# Altium integrated library Texas Instruments Interface RS-232.IntLib: 1272 symbols (part 33 of 37)
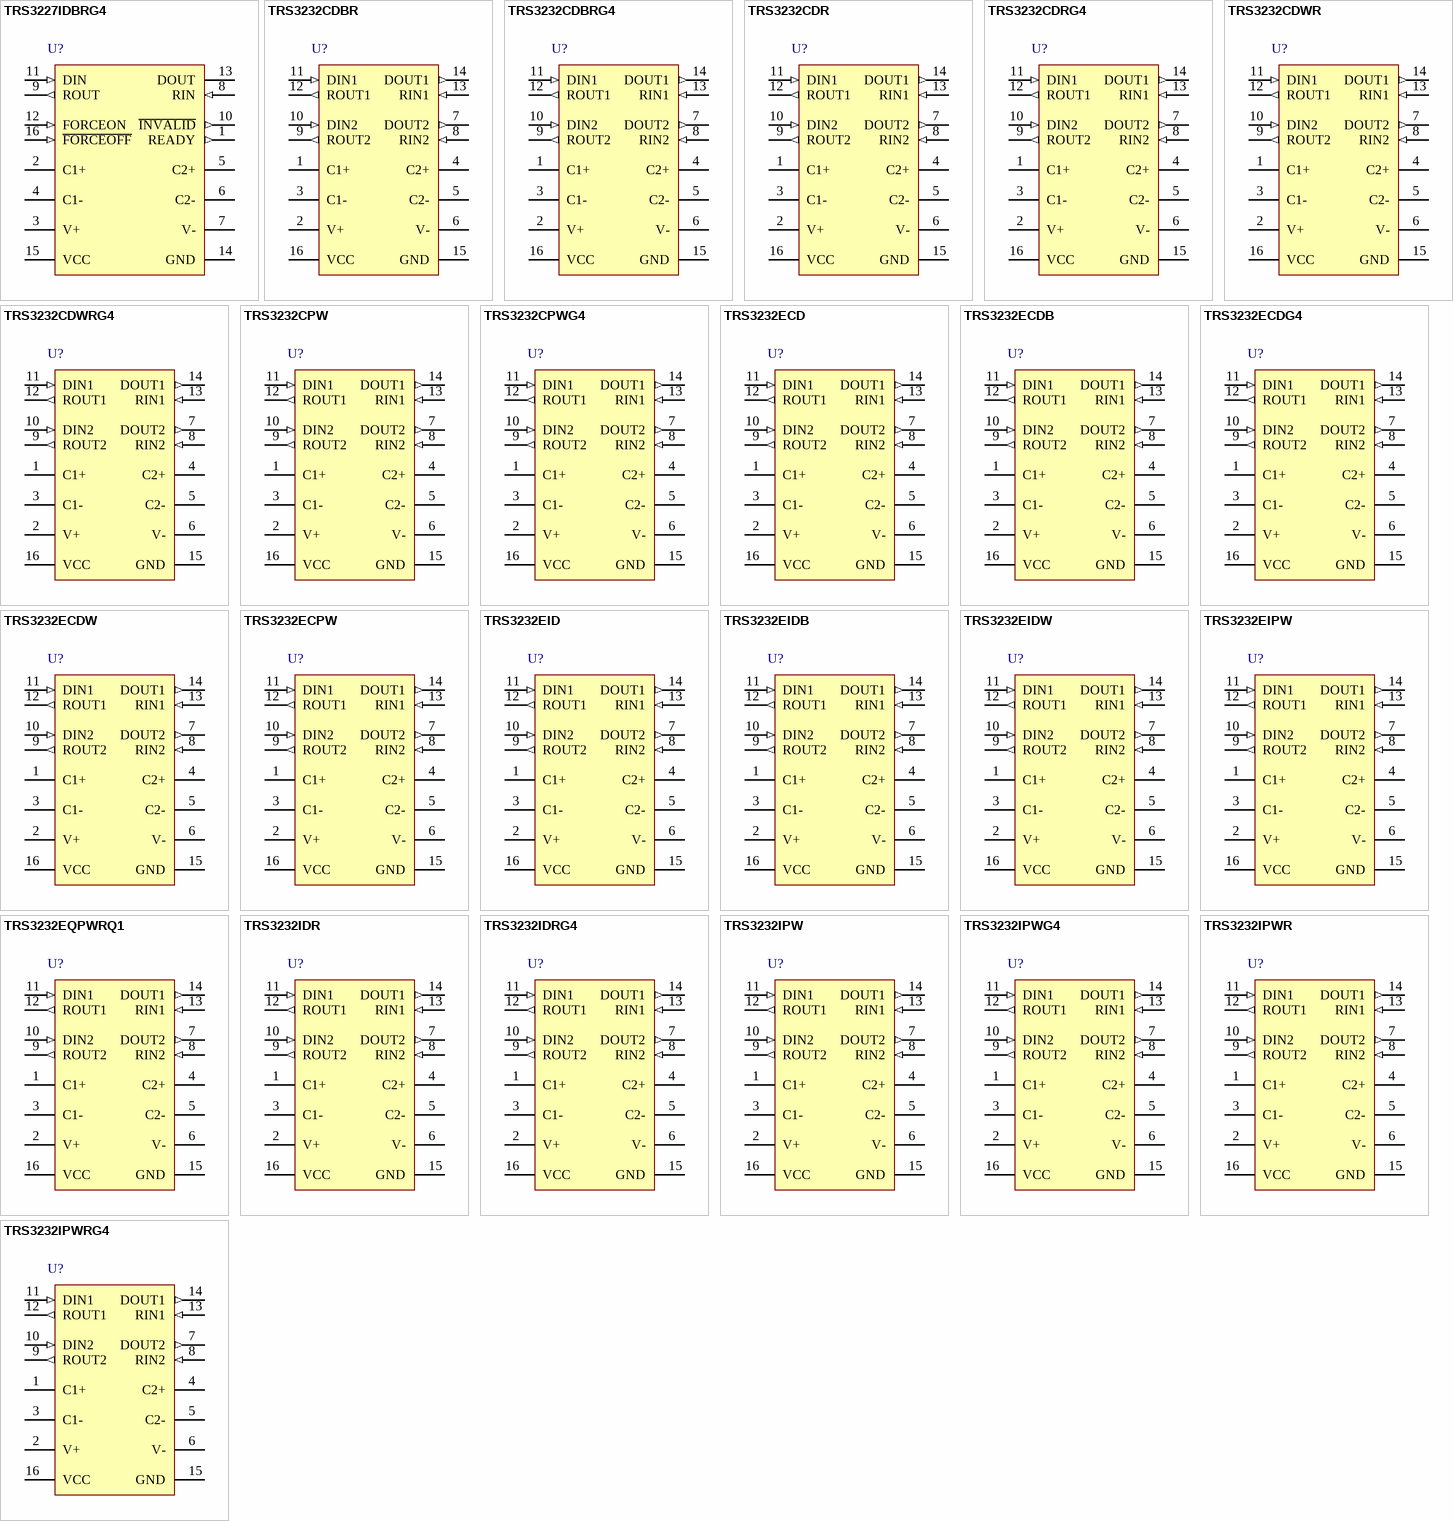
[diagram p86: symbols TRS3227IDBRG4 to TRS3232IPWRG4]

## TRS3232IDR
designator U?
3-V to 5.5-V Multichannel RS-232 Line Driver / Receiver with ±15-kV ESD Protection, -40 to 85 degC, 16-Pin SOIC (D),  Green (RoHS & no Sb/Br); Drivers Per Package: 2; Supply Voltage(s)(V): 3.3 or 5.0; ESD HBM(kV): +/-15; ICC(Max)(mA): 1; Single Supply: TRUE; DatasheetVersion: SLLS812; PackageVersion: revM, Jun-2011; PackageReference: D16; PackageDescription: 16-Pin Plastic Small Outline Integrated Circuit, 9.9 x 3.9 mm, Pitch 1.27 mm Pitch; SubFamily: RS-232; Receivers Per Package: 2; RS-232: TRUE; ComponentLink1Description: Manufacturer URL; ComponentLink1URL: www.ti.com; ComponentLink2Description: Datasheet; ComponentLink2URL: http://www.ti.com/general/docs/lit/getliterature.tsp?genericPartNumber=TRS3232&fileType=pdf; ComponentLink3Description: Package Specification; ComponentLink3URL: http://www.ti.com/litv/pdf/mpds178g
footprint TI-D16_N (SOIC, 16-Leads, Body 9.9x3.9mm, Pitch 1.27mm, IPC Medium Density)
footprint TI-D16_L (SOIC, 16-Leads, Body 9.9x3.9mm, Pitch 1.27mm, IPC High Density)
footprint TI-D16_M (SOIC, 16-Leads, Body 9.9x3.9mm, Pitch 1.27mm, IPC Low Density)
pins: 1 C1+, 2 V+ (power), 3 C1-, 4 C2+, 5 C2-, 6 V- (power), 7 DOUT2 (out), 8 RIN2 (in), 9 ROUT2 (out), 10 DIN2 (in), 11 DIN1 (in), 12 ROUT1 (out), 13 RIN1 (in), 14 DOUT1 (out), 15 GND (power), 16 VCC (power)

## TRS3232IDRG4
designator U?
3-V to 5.5-V Multichannel RS-232 Line Driver / Receiver with ±15-kV ESD Protection, -40 to 85 degC, 16-Pin SOIC (D),  Green (RoHS & no Sb/Br); Drivers Per Package: 2; Supply Voltage(s)(V): 3.3 or 5.0; ESD HBM(kV): +/-15; ICC(Max)(mA): 1; Single Supply: TRUE; DatasheetVersion: SLLS812; PackageVersion: revM, Jun-2011; PackageReference: D16; PackageDescription: 16-Pin Plastic Small Outline Integrated Circuit, 9.9 x 3.9 mm, Pitch 1.27 mm Pitch; SubFamily: RS-232; Receivers Per Package: 2; RS-232: TRUE; ComponentLink1Description: Manufacturer URL; ComponentLink1URL: www.ti.com; ComponentLink2Description: Datasheet; ComponentLink2URL: http://www.ti.com/general/docs/lit/getliterature.tsp?genericPartNumber=TRS3232&fileType=pdf; ComponentLink3Description: Package Specification; ComponentLink3URL: http://www.ti.com/litv/pdf/mpds178g
footprint TI-D16_N (SOIC, 16-Leads, Body 9.9x3.9mm, Pitch 1.27mm, IPC Medium Density)
footprint TI-D16_L (SOIC, 16-Leads, Body 9.9x3.9mm, Pitch 1.27mm, IPC High Density)
footprint TI-D16_M (SOIC, 16-Leads, Body 9.9x3.9mm, Pitch 1.27mm, IPC Low Density)
pins: 1 C1+, 2 V+ (power), 3 C1-, 4 C2+, 5 C2-, 6 V- (power), 7 DOUT2 (out), 8 RIN2 (in), 9 ROUT2 (out), 10 DIN2 (in), 11 DIN1 (in), 12 ROUT1 (out), 13 RIN1 (in), 14 DOUT1 (out), 15 GND (power), 16 VCC (power)

## TRS3232IPW
designator U?
3-V to 5.5-V Multichannel RS-232 Line Driver / Receiver with ±15-kV ESD Protection, -40 to 85 degC, 16-Pin TSSOP (PW),  Green (RoHS & no Sb/Br); Drivers Per Package: 2; Supply Voltage(s)(V): 3.3 or 5.0; ESD HBM(kV): +/-15; ICC(Max)(mA): 1; Single Supply: TRUE; DatasheetVersion: SLLS812; PackageVersion: revG, Feb-2011; PackageReference: PW16; PackageDescription: 16-Pin Plastic Thin Small Outline Package 5 x 4.4 mm Body ,0.65 mm Pitch; SubFamily: RS-232; Receivers Per Package: 2; RS-232: TRUE; ComponentLink1Description: Manufacturer URL; ComponentLink1URL: www.ti.com; ComponentLink2Description: Datasheet; ComponentLink2URL: http://www.ti.com/general/docs/lit/getliterature.tsp?genericPartNumber=TRS3232&fileType=pdf; ComponentLink3Description: Package Specification; ComponentLink3URL: http://www.ti.com/litv/pdf/mpds361
footprint TI-PW16_N (TSOP, 16-Leads, Body 5x4.4mm, Pitch 0.65mm, IPC Medium Density)
footprint TI-PW16_L (TSOP, 16-Leads, Body 5x4.4mm, Pitch 0.65mm, IPC High Density)
footprint TI-PW16_M (TSOP, 16-Leads, Body 5x4.4mm, Pitch 0.65mm, IPC Low Density)
pins: 1 C1+, 2 V+ (power), 3 C1-, 4 C2+, 5 C2-, 6 V- (power), 7 DOUT2 (out), 8 RIN2 (in), 9 ROUT2 (out), 10 DIN2 (in), 11 DIN1 (in), 12 ROUT1 (out), 13 RIN1 (in), 14 DOUT1 (out), 15 GND (power), 16 VCC (power)

## TRS3232IPWG4
designator U?
3-V to 5.5-V Multichannel RS-232 Line Driver / Receiver with ±15-kV ESD Protection, -40 to 85 degC, 16-Pin TSSOP (PW),  Green (RoHS & no Sb/Br); Drivers Per Package: 2; Supply Voltage(s)(V): 3.3 or 5.0; ESD HBM(kV): +/-15; ICC(Max)(mA): 1; Single Supply: TRUE; DatasheetVersion: SLLS812; PackageVersion: revG, Feb-2011; PackageReference: PW16; PackageDescription: 16-Pin Plastic Thin Small Outline Package 5 x 4.4 mm Body ,0.65 mm Pitch; SubFamily: RS-232; Receivers Per Package: 2; RS-232: TRUE; ComponentLink1Description: Manufacturer URL; ComponentLink1URL: www.ti.com; ComponentLink2Description: Datasheet; ComponentLink2URL: http://www.ti.com/general/docs/lit/getliterature.tsp?genericPartNumber=TRS3232&fileType=pdf; ComponentLink3Description: Package Specification; ComponentLink3URL: http://www.ti.com/litv/pdf/mpds361
footprint TI-PW16_N (TSOP, 16-Leads, Body 5x4.4mm, Pitch 0.65mm, IPC Medium Density)
footprint TI-PW16_L (TSOP, 16-Leads, Body 5x4.4mm, Pitch 0.65mm, IPC High Density)
footprint TI-PW16_M (TSOP, 16-Leads, Body 5x4.4mm, Pitch 0.65mm, IPC Low Density)
pins: 1 C1+, 2 V+ (power), 3 C1-, 4 C2+, 5 C2-, 6 V- (power), 7 DOUT2 (out), 8 RIN2 (in), 9 ROUT2 (out), 10 DIN2 (in), 11 DIN1 (in), 12 ROUT1 (out), 13 RIN1 (in), 14 DOUT1 (out), 15 GND (power), 16 VCC (power)

## TRS3232IPWR
designator U?
3-V to 5.5-V Multichannel RS-232 Line Driver / Receiver with ±15-kV ESD Protection, -40 to 85 degC, 16-Pin TSSOP (PW),  Green (RoHS & no Sb/Br); Drivers Per Package: 2; Supply Voltage(s)(V): 3.3 or 5.0; ESD HBM(kV): +/-15; ICC(Max)(mA): 1; Single Supply: TRUE; DatasheetVersion: SLLS812; PackageVersion: revG, Feb-2011; PackageReference: PW16; PackageDescription: 16-Pin Plastic Thin Small Outline Package 5 x 4.4 mm Body ,0.65 mm Pitch; SubFamily: RS-232; Receivers Per Package: 2; RS-232: TRUE; ComponentLink1Description: Manufacturer URL; ComponentLink1URL: www.ti.com; ComponentLink2Description: Datasheet; ComponentLink2URL: http://www.ti.com/general/docs/lit/getliterature.tsp?genericPartNumber=TRS3232&fileType=pdf; ComponentLink3Description: Package Specification; ComponentLink3URL: http://www.ti.com/litv/pdf/mpds361
footprint TI-PW16_N (TSOP, 16-Leads, Body 5x4.4mm, Pitch 0.65mm, IPC Medium Density)
footprint TI-PW16_L (TSOP, 16-Leads, Body 5x4.4mm, Pitch 0.65mm, IPC High Density)
footprint TI-PW16_M (TSOP, 16-Leads, Body 5x4.4mm, Pitch 0.65mm, IPC Low Density)
pins: 1 C1+, 2 V+ (power), 3 C1-, 4 C2+, 5 C2-, 6 V- (power), 7 DOUT2 (out), 8 RIN2 (in), 9 ROUT2 (out), 10 DIN2 (in), 11 DIN1 (in), 12 ROUT1 (out), 13 RIN1 (in), 14 DOUT1 (out), 15 GND (power), 16 VCC (power)

## TRS3232IPWRG4
designator U?
3-V to 5.5-V Multichannel RS-232 Line Driver / Receiver with ±15-kV ESD Protection, -40 to 85 degC, 16-Pin TSSOP (PW),  Green (RoHS & no Sb/Br); Drivers Per Package: 2; Supply Voltage(s)(V): 3.3 or 5.0; ESD HBM(kV): +/-15; ICC(Max)(mA): 1; Single Supply: TRUE; DatasheetVersion: SLLS812; PackageVersion: revG, Feb-2011; PackageReference: PW16; PackageDescription: 16-Pin Plastic Thin Small Outline Package 5 x 4.4 mm Body ,0.65 mm Pitch; SubFamily: RS-232; Receivers Per Package: 2; RS-232: TRUE; ComponentLink1Description: Manufacturer URL; ComponentLink1URL: www.ti.com; ComponentLink2Description: Datasheet; ComponentLink2URL: http://www.ti.com/general/docs/lit/getliterature.tsp?genericPartNumber=TRS3232&fileType=pdf; ComponentLink3Description: Package Specification; ComponentLink3URL: http://www.ti.com/litv/pdf/mpds361
footprint TI-PW16_N (TSOP, 16-Leads, Body 5x4.4mm, Pitch 0.65mm, IPC Medium Density)
footprint TI-PW16_L (TSOP, 16-Leads, Body 5x4.4mm, Pitch 0.65mm, IPC High Density)
footprint TI-PW16_M (TSOP, 16-Leads, Body 5x4.4mm, Pitch 0.65mm, IPC Low Density)
pins: 1 C1+, 2 V+ (power), 3 C1-, 4 C2+, 5 C2-, 6 V- (power), 7 DOUT2 (out), 8 RIN2 (in), 9 ROUT2 (out), 10 DIN2 (in), 11 DIN1 (in), 12 ROUT1 (out), 13 RIN1 (in), 14 DOUT1 (out), 15 GND (power), 16 VCC (power)

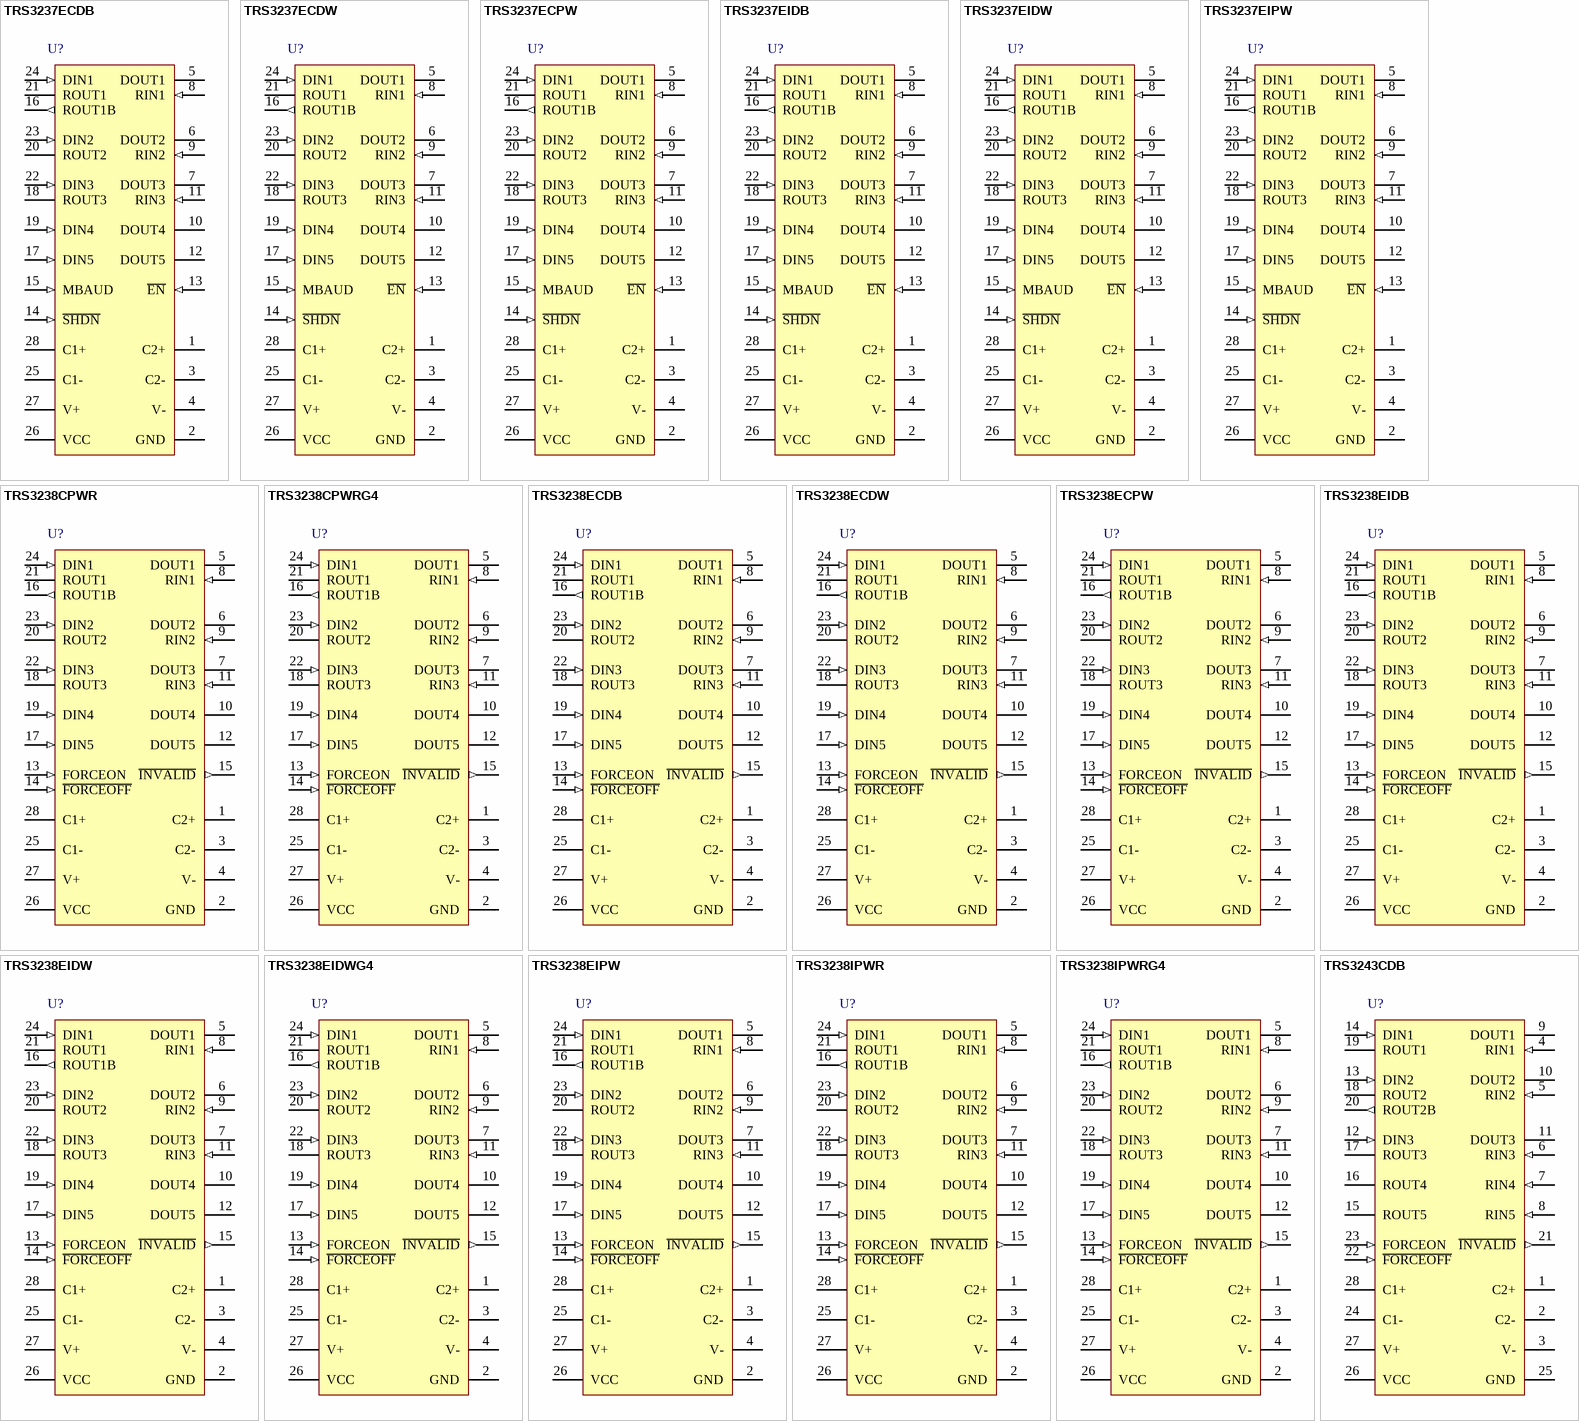
[diagram p48: symbols TRS3237ECDB to TRS3243CDB]

## TRS3237ECDB
designator U?
3-V to 5.5-V Multichannel RS-232 1-Mbit/s Line Driver / Receiver, 0 to 70 degC, 28-Pin SSOP (DB), Green (RoHS & no Sb/Br); Drivers Per Package: 5; Receivers Per Package: 3; Supply Voltage(s)(V): 3.3 or 5.0; ESD HBM(kV): +/-15; ICC(Max)(mA): 2; Single Supply: TRUE; DatasheetVersion: SLLS796A; PackageVersion: revE, Dec-2001; PackageReference: DB28; PackageDescription: 28-Pin Plastic Small Outline Package, 10.2 x 5.3 mm Body, 0.65 mm Pitch; SubFamily: RS-232; RS-232: TRUE; IEC-61000-4-2 SUPPORT: TRUE; ComponentLink1Description: Manufacturer URL; ComponentLink1URL: www.ti.com; ComponentLink2Description: Datasheet; ComponentLink2URL: http://www.ti.com/general/docs/lit/getliterature.tsp?genericPartNumber=TRS3237E&fileType=pdf; ComponentLink3Description: Package Specification; ComponentLink3URL: http://www.ti.com/litv/pdf/msso002e
footprint TI-DB28_N (SOP, 28-Leads, Body 10.2x5.3mm, Pitch 0.65mm, IPC Medium Density)
footprint TI-DB28_L (SOP, 28-Leads, Body 10.2x5.3mm, Pitch 0.65mm, IPC High Density)
footprint TI-DB28_M (SOP, 28-Leads, Body 10.2x5.3mm, Pitch 0.65mm, IPC Low Density)
pins: 1 C2+, 2 GND (power), 3 C2-, 4 V- (power), 5 DOUT1 (hiz), 6 DOUT2 (hiz), 7 DOUT3 (hiz), 8 RIN1 (in), 9 RIN2 (in), 10 DOUT4 (hiz), 11 RIN3 (in), 12 DOUT5 (hiz), 13 ~{EN} (in), 14 ~{SHDN} (in), 15 MBAUD (in), 16 ROUT1B (out), 17 DIN5 (in), 18 ROUT3 (hiz), 19 DIN4 (in), 20 ROUT2 (hiz), 21 ROUT1 (hiz), 22 DIN3 (in), 23 DIN2 (in), 24 DIN1 (in), 25 C1-, 26 VCC (power), 27 V+ (power), 28 C1+

## TRS3237ECDW
designator U?
3-V to 5.5-V Multichannel RS-232 1-Mbit/s Line Driver / Receiver, 0 to 70 degC, 28-Pin SOIC (DW), Green (RoHS & no Sb/Br); Drivers Per Package: 5; Receivers Per Package: 3; Supply Voltage(s)(V): 3.3 or 5.0; ESD HBM(kV): +/-15; ICC(Max)(mA): 2; Single Supply: TRUE; DatasheetVersion: SLLS796A; PackageVersion: revG, Jan-2011; PackageReference: DW28; PackageDescription: 28-Pin Plastic Small Outline Integrated Circuit, 17.9 x 7.5 mm, Pitch 1.27 mm Pitch; SubFamily: RS-232; RS-232: TRUE; IEC-61000-4-2 SUPPORT: TRUE; ComponentLink1Description: Manufacturer URL; ComponentLink1URL: www.ti.com; ComponentLink2Description: Datasheet; ComponentLink2URL: http://www.ti.com/general/docs/lit/getliterature.tsp?genericPartNumber=TRS3237E&fileType=pdf; ComponentLink3Description: Package Specification; ComponentLink3URL: http://www.ti.com/litv/pdf/mpds175a
footprint TI-DW28_N (SOIC, 28-Leads, Body 17.9x7.5mm, Pitch 1.27mm, IPC Medium Density)
footprint TI-DW28_L (SOIC, 28-Leads, Body 17.9x7.5mm, Pitch 1.27mm, IPC High Density)
footprint TI-DW28_M (SOIC, 28-Leads, Body 17.9x7.5mm, Pitch 1.27mm, IPC Low Density)
pins: 1 C2+, 2 GND (power), 3 C2-, 4 V- (power), 5 DOUT1 (hiz), 6 DOUT2 (hiz), 7 DOUT3 (hiz), 8 RIN1 (in), 9 RIN2 (in), 10 DOUT4 (hiz), 11 RIN3 (in), 12 DOUT5 (hiz), 13 ~{EN} (in), 14 ~{SHDN} (in), 15 MBAUD (in), 16 ROUT1B (out), 17 DIN5 (in), 18 ROUT3 (hiz), 19 DIN4 (in), 20 ROUT2 (hiz), 21 ROUT1 (hiz), 22 DIN3 (in), 23 DIN2 (in), 24 DIN1 (in), 25 C1-, 26 VCC (power), 27 V+ (power), 28 C1+

## TRS3237ECPW
designator U?
3-V to 5.5-V Multichannel RS-232 1-Mbit/s Line Driver / Receiver, 0 to 70 degC, 28-Pin TSSOP (PW), Green (RoHS & no Sb/Br); Drivers Per Package: 5; Receivers Per Package: 3; Supply Voltage(s)(V): 3.3 or 5.0; ESD HBM(kV): +/-15; ICC(Max)(mA): 2; Single Supply: TRUE; DatasheetVersion: SLLS796A; PackageVersion: revG, Feb-2011; PackageReference: PW28; PackageDescription: 28-Pin Plastic Thin Small Outline Package 9.7 x 4.4 mm Body ,0.65 mm Pitch; SubFamily: RS-232; RS-232: TRUE; IEC-61000-4-2 SUPPORT: TRUE; ComponentLink1Description: Manufacturer URL; ComponentLink1URL: www.ti.com; ComponentLink2Description: Datasheet; ComponentLink2URL: http://www.ti.com/general/docs/lit/getliterature.tsp?genericPartNumber=TRS3237E&fileType=pdf; ComponentLink3Description: Package Specification; ComponentLink3URL: http://www.ti.com/litv/pdf/mpds364
footprint TI-PW28_N (TSOP, 28-Leads, Body 9.7x4.4mm, Pitch 0.65mm, IPC Medium Density)
footprint TI-PW28_L (TSOP, 28-Leads, Body 9.7x4.4mm, Pitch 0.65mm, IPC High Density)
footprint TI-PW28_M (TSOP, 28-Leads, Body 9.7x4.4mm, Pitch 0.65mm, IPC Low Density)
pins: 1 C2+, 2 GND (power), 3 C2-, 4 V- (power), 5 DOUT1 (hiz), 6 DOUT2 (hiz), 7 DOUT3 (hiz), 8 RIN1 (in), 9 RIN2 (in), 10 DOUT4 (hiz), 11 RIN3 (in), 12 DOUT5 (hiz), 13 ~{EN} (in), 14 ~{SHDN} (in), 15 MBAUD (in), 16 ROUT1B (out), 17 DIN5 (in), 18 ROUT3 (hiz), 19 DIN4 (in), 20 ROUT2 (hiz), 21 ROUT1 (hiz), 22 DIN3 (in), 23 DIN2 (in), 24 DIN1 (in), 25 C1-, 26 VCC (power), 27 V+ (power), 28 C1+

## TRS3237EIDB
designator U?
3-V to 5.5-V Multichannel RS-232 1-Mbit/s Line Driver / Receiver, -40 to 85 degC, 28-Pin SSOP (DB), Green (RoHS & no Sb/Br); Drivers Per Package: 5; Receivers Per Package: 3; Supply Voltage(s)(V): 3.3 or 5.0; ESD HBM(kV): +/-15; ICC(Max)(mA): 2; Single Supply: TRUE; DatasheetVersion: SLLS796A; PackageVersion: revE, Dec-2001; PackageReference: DB28; PackageDescription: 28-Pin Plastic Small Outline Package, 10.2 x 5.3 mm Body, 0.65 mm Pitch; SubFamily: RS-232; RS-232: TRUE; IEC-61000-4-2 SUPPORT: TRUE; ComponentLink1Description: Manufacturer URL; ComponentLink1URL: www.ti.com; ComponentLink2Description: Datasheet; ComponentLink2URL: http://www.ti.com/general/docs/lit/getliterature.tsp?genericPartNumber=TRS3237E&fileType=pdf; ComponentLink3Description: Package Specification; ComponentLink3URL: http://www.ti.com/litv/pdf/msso002e
footprint TI-DB28_N (SOP, 28-Leads, Body 10.2x5.3mm, Pitch 0.65mm, IPC Medium Density)
footprint TI-DB28_L (SOP, 28-Leads, Body 10.2x5.3mm, Pitch 0.65mm, IPC High Density)
footprint TI-DB28_M (SOP, 28-Leads, Body 10.2x5.3mm, Pitch 0.65mm, IPC Low Density)
pins: 1 C2+, 2 GND (power), 3 C2-, 4 V- (power), 5 DOUT1 (hiz), 6 DOUT2 (hiz), 7 DOUT3 (hiz), 8 RIN1 (in), 9 RIN2 (in), 10 DOUT4 (hiz), 11 RIN3 (in), 12 DOUT5 (hiz), 13 ~{EN} (in), 14 ~{SHDN} (in), 15 MBAUD (in), 16 ROUT1B (out), 17 DIN5 (in), 18 ROUT3 (hiz), 19 DIN4 (in), 20 ROUT2 (hiz), 21 ROUT1 (hiz), 22 DIN3 (in), 23 DIN2 (in), 24 DIN1 (in), 25 C1-, 26 VCC (power), 27 V+ (power), 28 C1+

## TRS3237EIDW
designator U?
3-V to 5.5-V Multichannel RS-232 1-Mbit/s Line Driver / Receiver, -40 to 85 degC, 28-Pin SOIC (DW), Green (RoHS & no Sb/Br); Drivers Per Package: 5; Receivers Per Package: 3; Supply Voltage(s)(V): 3.3 or 5.0; ESD HBM(kV): +/-15; ICC(Max)(mA): 2; Single Supply: TRUE; DatasheetVersion: SLLS796A; PackageVersion: revG, Jan-2011; PackageReference: DW28; PackageDescription: 28-Pin Plastic Small Outline Integrated Circuit, 17.9 x 7.5 mm, Pitch 1.27 mm Pitch; SubFamily: RS-232; RS-232: TRUE; IEC-61000-4-2 SUPPORT: TRUE; ComponentLink1Description: Manufacturer URL; ComponentLink1URL: www.ti.com; ComponentLink2Description: Datasheet; ComponentLink2URL: http://www.ti.com/general/docs/lit/getliterature.tsp?genericPartNumber=TRS3237E&fileType=pdf; ComponentLink3Description: Package Specification; ComponentLink3URL: http://www.ti.com/litv/pdf/mpds175a
footprint TI-DW28_N (SOIC, 28-Leads, Body 17.9x7.5mm, Pitch 1.27mm, IPC Medium Density)
footprint TI-DW28_L (SOIC, 28-Leads, Body 17.9x7.5mm, Pitch 1.27mm, IPC High Density)
footprint TI-DW28_M (SOIC, 28-Leads, Body 17.9x7.5mm, Pitch 1.27mm, IPC Low Density)
pins: 1 C2+, 2 GND (power), 3 C2-, 4 V- (power), 5 DOUT1 (hiz), 6 DOUT2 (hiz), 7 DOUT3 (hiz), 8 RIN1 (in), 9 RIN2 (in), 10 DOUT4 (hiz), 11 RIN3 (in), 12 DOUT5 (hiz), 13 ~{EN} (in), 14 ~{SHDN} (in), 15 MBAUD (in), 16 ROUT1B (out), 17 DIN5 (in), 18 ROUT3 (hiz), 19 DIN4 (in), 20 ROUT2 (hiz), 21 ROUT1 (hiz), 22 DIN3 (in), 23 DIN2 (in), 24 DIN1 (in), 25 C1-, 26 VCC (power), 27 V+ (power), 28 C1+

## TRS3237EIPW
designator U?
3-V to 5.5-V Multichannel RS-232 1-Mbit/s Line Driver / Receiver, -40 to 85 degC, 28-Pin TSSOP (PW), Green (RoHS & no Sb/Br); Drivers Per Package: 5; Receivers Per Package: 3; Supply Voltage(s)(V): 3.3 or 5.0; ESD HBM(kV): +/-15; ICC(Max)(mA): 2; Single Supply: TRUE; DatasheetVersion: SLLS796A; PackageVersion: revG, Feb-2011; PackageReference: PW28; PackageDescription: 28-Pin Plastic Thin Small Outline Package 9.7 x 4.4 mm Body ,0.65 mm Pitch; SubFamily: RS-232; RS-232: TRUE; IEC-61000-4-2 SUPPORT: TRUE; ComponentLink1Description: Manufacturer URL; ComponentLink1URL: www.ti.com; ComponentLink2Description: Datasheet; ComponentLink2URL: http://www.ti.com/general/docs/lit/getliterature.tsp?genericPartNumber=TRS3237E&fileType=pdf; ComponentLink3Description: Package Specification; ComponentLink3URL: http://www.ti.com/litv/pdf/mpds364
footprint TI-PW28_N (TSOP, 28-Leads, Body 9.7x4.4mm, Pitch 0.65mm, IPC Medium Density)
footprint TI-PW28_L (TSOP, 28-Leads, Body 9.7x4.4mm, Pitch 0.65mm, IPC High Density)
footprint TI-PW28_M (TSOP, 28-Leads, Body 9.7x4.4mm, Pitch 0.65mm, IPC Low Density)
pins: 1 C2+, 2 GND (power), 3 C2-, 4 V- (power), 5 DOUT1 (hiz), 6 DOUT2 (hiz), 7 DOUT3 (hiz), 8 RIN1 (in), 9 RIN2 (in), 10 DOUT4 (hiz), 11 RIN3 (in), 12 DOUT5 (hiz), 13 ~{EN} (in), 14 ~{SHDN} (in), 15 MBAUD (in), 16 ROUT1B (out), 17 DIN5 (in), 18 ROUT3 (hiz), 19 DIN4 (in), 20 ROUT2 (hiz), 21 ROUT1 (hiz), 22 DIN3 (in), 23 DIN2 (in), 24 DIN1 (in), 25 C1-, 26 VCC (power), 27 V+ (power), 28 C1+

## TRS3238CPWR
designator U?
3-V to 5.5-V Multichannel RS-232 Line Driver / Receiver with ±15-kV ESD (HBM) Protection, 0 to 70 degC, 28-Pin TSSOP (PW), Green (RoHS & no Sb/Br); Drivers Per Package: 5; Receivers Per Package: 3; Supply Voltage(s)(V): 3.3 or 5.0; ESD HBM(kV): +/-15; ICC(Max)(mA): 2; Single Supply: TRUE; DatasheetVersion: SLLS817; PackageVersion: revG, Feb-2011; PackageReference: PW28; PackageDescription: 28-Pin Plastic Thin Small Outline Package 9.7 x 4.4 mm Body ,0.65 mm Pitch; SubFamily: RS-232; RS-232: TRUE; ComponentLink1Description: Manufacturer URL; ComponentLink1URL: www.ti.com; ComponentLink2Description: Datasheet; ComponentLink2URL: http://www.ti.com/general/docs/lit/getliterature.tsp?genericPartNumber=TRS3238&fileType=pdf; ComponentLink3Description: Package Specification; ComponentLink3URL: http://www.ti.com/litv/pdf/mpds364
footprint TI-PW28_N (TSOP, 28-Leads, Body 9.7x4.4mm, Pitch 0.65mm, IPC Medium Density)
footprint TI-PW28_L (TSOP, 28-Leads, Body 9.7x4.4mm, Pitch 0.65mm, IPC High Density)
footprint TI-PW28_M (TSOP, 28-Leads, Body 9.7x4.4mm, Pitch 0.65mm, IPC Low Density)
pins: 1 C2+, 2 GND (power), 3 C2-, 4 V- (power), 5 DOUT1 (hiz), 6 DOUT2 (hiz), 7 DOUT3 (hiz), 8 RIN1 (in), 9 RIN2 (in), 10 DOUT4 (hiz), 11 RIN3 (in), 12 DOUT5 (hiz), 13 FORCEON (in), 14 ~{FORCEOFF} (in), 15 ~{INVALID} (out), 16 ROUT1B (out), 17 DIN5 (in), 18 ROUT3 (hiz), 19 DIN4 (in), 20 ROUT2 (hiz), 21 ROUT1 (hiz), 22 DIN3 (in), 23 DIN2 (in), 24 DIN1 (in), 25 C1-, 26 VCC (power), 27 V+ (power), 28 C1+

## TRS3238CPWRG4
designator U?
3-V to 5.5-V Multichannel RS-232 Line Driver / Receiver with ±15-kV ESD (HBM) Protection, 0 to 70 degC, 28-Pin TSSOP (PW), Green (RoHS & no Sb/Br); Drivers Per Package: 5; Receivers Per Package: 3; Supply Voltage(s)(V): 3.3 or 5.0; ESD HBM(kV): +/-15; ICC(Max)(mA): 2; Single Supply: TRUE; DatasheetVersion: SLLS817; PackageVersion: revG, Feb-2011; PackageReference: PW28; PackageDescription: 28-Pin Plastic Thin Small Outline Package 9.7 x 4.4 mm Body ,0.65 mm Pitch; SubFamily: RS-232; RS-232: TRUE; ComponentLink1Description: Manufacturer URL; ComponentLink1URL: www.ti.com; ComponentLink2Description: Datasheet; ComponentLink2URL: http://www.ti.com/general/docs/lit/getliterature.tsp?genericPartNumber=TRS3238&fileType=pdf; ComponentLink3Description: Package Specification; ComponentLink3URL: http://www.ti.com/litv/pdf/mpds364
footprint TI-PW28_N (TSOP, 28-Leads, Body 9.7x4.4mm, Pitch 0.65mm, IPC Medium Density)
footprint TI-PW28_L (TSOP, 28-Leads, Body 9.7x4.4mm, Pitch 0.65mm, IPC High Density)
footprint TI-PW28_M (TSOP, 28-Leads, Body 9.7x4.4mm, Pitch 0.65mm, IPC Low Density)
pins: 1 C2+, 2 GND (power), 3 C2-, 4 V- (power), 5 DOUT1 (hiz), 6 DOUT2 (hiz), 7 DOUT3 (hiz), 8 RIN1 (in), 9 RIN2 (in), 10 DOUT4 (hiz), 11 RIN3 (in), 12 DOUT5 (hiz), 13 FORCEON (in), 14 ~{FORCEOFF} (in), 15 ~{INVALID} (out), 16 ROUT1B (out), 17 DIN5 (in), 18 ROUT3 (hiz), 19 DIN4 (in), 20 ROUT2 (hiz), 21 ROUT1 (hiz), 22 DIN3 (in), 23 DIN2 (in), 24 DIN1 (in), 25 C1-, 26 VCC (power), 27 V+ (power), 28 C1+

## TRS3238ECDB
designator U?
3-V to 5.5-V Multichannel RS-232 Line Driver / Receiver with ±15-kV ESD (HBM) Protection, 0 to 70 degC, 28-Pin SSOP (DB), Green (RoHS & no Sb/Br); Drivers Per Package: 5; Receivers Per Package: 3; Supply Voltage(s)(V): 3.3 or 5.0; ESD HBM(kV): +/-15; ICC(Max)(mA): 2; Single Supply: TRUE; DatasheetVersion: SLLS797; PackageVersion: revE, Dec-2001; PackageReference: DB28; PackageDescription: 28-Pin Plastic Small Outline Package, 10.2 x 5.3 mm Body, 0.65 mm Pitch; SubFamily: RS-232; RS-232: TRUE; IEC-61000-4-2 SUPPORT: TRUE; ComponentLink1Description: Manufacturer URL; ComponentLink1URL: www.ti.com; ComponentLink2Description: Datasheet; ComponentLink2URL: http://www.ti.com/general/docs/lit/getliterature.tsp?genericPartNumber=TRS3238E&fileType=pdf; ComponentLink3Description: Package Specification; ComponentLink3URL: http://www.ti.com/litv/pdf/msso002e
footprint TI-DB28_N (SOP, 28-Leads, Body 10.2x5.3mm, Pitch 0.65mm, IPC Medium Density)
footprint TI-DB28_L (SOP, 28-Leads, Body 10.2x5.3mm, Pitch 0.65mm, IPC High Density)
footprint TI-DB28_M (SOP, 28-Leads, Body 10.2x5.3mm, Pitch 0.65mm, IPC Low Density)
pins: 1 C2+, 2 GND (power), 3 C2-, 4 V- (power), 5 DOUT1 (hiz), 6 DOUT2 (hiz), 7 DOUT3 (hiz), 8 RIN1 (in), 9 RIN2 (in), 10 DOUT4 (hiz), 11 RIN3 (in), 12 DOUT5 (hiz), 13 FORCEON (in), 14 ~{FORCEOFF} (in), 15 ~{INVALID} (out), 16 ROUT1B (out), 17 DIN5 (in), 18 ROUT3 (hiz), 19 DIN4 (in), 20 ROUT2 (hiz), 21 ROUT1 (hiz), 22 DIN3 (in), 23 DIN2 (in), 24 DIN1 (in), 25 C1-, 26 VCC (power), 27 V+ (power), 28 C1+

## TRS3238ECDW
designator U?
3-V to 5.5-V Multichannel RS-232 Line Driver / Receiver with ±15-kV ESD (HBM) Protection, 0 to 70 degC, 28-Pin SOIC (DW), Green (RoHS & no Sb/Br); Drivers Per Package: 5; Receivers Per Package: 3; Supply Voltage(s)(V): 3.3 or 5.0; ESD HBM(kV): +/-15; ICC(Max)(mA): 2; Single Supply: TRUE; DatasheetVersion: SLLS797; PackageVersion: revG, Jan-2011; PackageReference: DW28; PackageDescription: 28-Pin Plastic Small Outline Integrated Circuit, 17.9 x 7.5 mm, Pitch 1.27 mm Pitch; SubFamily: RS-232; RS-232: TRUE; IEC-61000-4-2 SUPPORT: TRUE; ComponentLink1Description: Manufacturer URL; ComponentLink1URL: www.ti.com; ComponentLink2Description: Datasheet; ComponentLink2URL: http://www.ti.com/general/docs/lit/getliterature.tsp?genericPartNumber=TRS3238E&fileType=pdf; ComponentLink3Description: Package Specification; ComponentLink3URL: http://www.ti.com/litv/pdf/mpds175a
footprint TI-DW28_N (SOIC, 28-Leads, Body 17.9x7.5mm, Pitch 1.27mm, IPC Medium Density)
footprint TI-DW28_L (SOIC, 28-Leads, Body 17.9x7.5mm, Pitch 1.27mm, IPC High Density)
footprint TI-DW28_M (SOIC, 28-Leads, Body 17.9x7.5mm, Pitch 1.27mm, IPC Low Density)
pins: 1 C2+, 2 GND (power), 3 C2-, 4 V- (power), 5 DOUT1 (hiz), 6 DOUT2 (hiz), 7 DOUT3 (hiz), 8 RIN1 (in), 9 RIN2 (in), 10 DOUT4 (hiz), 11 RIN3 (in), 12 DOUT5 (hiz), 13 FORCEON (in), 14 ~{FORCEOFF} (in), 15 ~{INVALID} (out), 16 ROUT1B (out), 17 DIN5 (in), 18 ROUT3 (hiz), 19 DIN4 (in), 20 ROUT2 (hiz), 21 ROUT1 (hiz), 22 DIN3 (in), 23 DIN2 (in), 24 DIN1 (in), 25 C1-, 26 VCC (power), 27 V+ (power), 28 C1+

## TRS3238ECPW
designator U?
3-V to 5.5-V Multichannel RS-232 Line Driver / Receiver with ±15-kV ESD (HBM) Protection, 0 to 70 degC, 28-Pin TSSOP (PW), Green (RoHS & no Sb/Br); Drivers Per Package: 5; Receivers Per Package: 3; Supply Voltage(s)(V): 3.3 or 5.0; ESD HBM(kV): +/-15; ICC(Max)(mA): 2; Single Supply: TRUE; DatasheetVersion: SLLS797; PackageVersion: revG, Feb-2011; PackageReference: PW28; PackageDescription: 28-Pin Plastic Thin Small Outline Package 9.7 x 4.4 mm Body ,0.65 mm Pitch; SubFamily: RS-232; RS-232: TRUE; IEC-61000-4-2 SUPPORT: TRUE; ComponentLink1Description: Manufacturer URL; ComponentLink1URL: www.ti.com; ComponentLink2Description: Datasheet; ComponentLink2URL: http://www.ti.com/general/docs/lit/getliterature.tsp?genericPartNumber=TRS3238E&fileType=pdf; ComponentLink3Description: Package Specification; ComponentLink3URL: http://www.ti.com/litv/pdf/mpds364
footprint TI-PW28_N (TSOP, 28-Leads, Body 9.7x4.4mm, Pitch 0.65mm, IPC Medium Density)
footprint TI-PW28_L (TSOP, 28-Leads, Body 9.7x4.4mm, Pitch 0.65mm, IPC High Density)
footprint TI-PW28_M (TSOP, 28-Leads, Body 9.7x4.4mm, Pitch 0.65mm, IPC Low Density)
pins: 1 C2+, 2 GND (power), 3 C2-, 4 V- (power), 5 DOUT1 (hiz), 6 DOUT2 (hiz), 7 DOUT3 (hiz), 8 RIN1 (in), 9 RIN2 (in), 10 DOUT4 (hiz), 11 RIN3 (in), 12 DOUT5 (hiz), 13 FORCEON (in), 14 ~{FORCEOFF} (in), 15 ~{INVALID} (out), 16 ROUT1B (out), 17 DIN5 (in), 18 ROUT3 (hiz), 19 DIN4 (in), 20 ROUT2 (hiz), 21 ROUT1 (hiz), 22 DIN3 (in), 23 DIN2 (in), 24 DIN1 (in), 25 C1-, 26 VCC (power), 27 V+ (power), 28 C1+

## TRS3238EIDB
designator U?
3-V to 5.5-V Multichannel RS-232 Line Driver / Receiver with ±15-kV ESD (HBM) Protection, -40 to 85 degC, 28-Pin SSOP (DB), Green (RoHS & no Sb/Br); Drivers Per Package: 5; Receivers Per Package: 3; Supply Voltage(s)(V): 3.3 or 5.0; ESD HBM(kV): +/-15; ICC(Max)(mA): 2; Single Supply: TRUE; DatasheetVersion: SLLS797; PackageVersion: revE, Dec-2001; PackageReference: DB28; PackageDescription: 28-Pin Plastic Small Outline Package, 10.2 x 5.3 mm Body, 0.65 mm Pitch; SubFamily: RS-232; RS-232: TRUE; IEC-61000-4-2 SUPPORT: TRUE; ComponentLink1Description: Manufacturer URL; ComponentLink1URL: www.ti.com; ComponentLink2Description: Datasheet; ComponentLink2URL: http://www.ti.com/general/docs/lit/getliterature.tsp?genericPartNumber=TRS3238E&fileType=pdf; ComponentLink3Description: Package Specification; ComponentLink3URL: http://www.ti.com/litv/pdf/msso002e
footprint TI-DB28_N (SOP, 28-Leads, Body 10.2x5.3mm, Pitch 0.65mm, IPC Medium Density)
footprint TI-DB28_L (SOP, 28-Leads, Body 10.2x5.3mm, Pitch 0.65mm, IPC High Density)
footprint TI-DB28_M (SOP, 28-Leads, Body 10.2x5.3mm, Pitch 0.65mm, IPC Low Density)
pins: 1 C2+, 2 GND (power), 3 C2-, 4 V- (power), 5 DOUT1 (hiz), 6 DOUT2 (hiz), 7 DOUT3 (hiz), 8 RIN1 (in), 9 RIN2 (in), 10 DOUT4 (hiz), 11 RIN3 (in), 12 DOUT5 (hiz), 13 FORCEON (in), 14 ~{FORCEOFF} (in), 15 ~{INVALID} (out), 16 ROUT1B (out), 17 DIN5 (in), 18 ROUT3 (hiz), 19 DIN4 (in), 20 ROUT2 (hiz), 21 ROUT1 (hiz), 22 DIN3 (in), 23 DIN2 (in), 24 DIN1 (in), 25 C1-, 26 VCC (power), 27 V+ (power), 28 C1+

## TRS3238EIDW
designator U?
3-V to 5.5-V Multichannel RS-232 Line Driver / Receiver with ±15-kV ESD (HBM) Protection, -40 to 85 degC, 28-Pin SOIC (DW) , Green (RoHS & no Sb/Br); Drivers Per Package: 5; Receivers Per Package: 3; Supply Voltage(s)(V): 3.3 or 5.0; ESD HBM(kV): +/-15; ICC(Max)(mA): 2; Single Supply: TRUE; DatasheetVersion: SLLS797; PackageVersion: revG, Jan-2011; PackageReference: DW28; PackageDescription: 28-Pin Plastic Small Outline Integrated Circuit, 17.9 x 7.5 mm, Pitch 1.27 mm Pitch; SubFamily: RS-232; RS-232: TRUE; IEC-61000-4-2 SUPPORT: TRUE; ComponentLink1Description: Manufacturer URL; ComponentLink1URL: www.ti.com; ComponentLink2Description: Datasheet; ComponentLink2URL: http://www.ti.com/general/docs/lit/getliterature.tsp?genericPartNumber=TRS3238E&fileType=pdf; ComponentLink3Description: Package Specification; ComponentLink3URL: http://www.ti.com/litv/pdf/mpds175a
footprint TI-DW28_N (SOIC, 28-Leads, Body 17.9x7.5mm, Pitch 1.27mm, IPC Medium Density)
footprint TI-DW28_L (SOIC, 28-Leads, Body 17.9x7.5mm, Pitch 1.27mm, IPC High Density)
footprint TI-DW28_M (SOIC, 28-Leads, Body 17.9x7.5mm, Pitch 1.27mm, IPC Low Density)
pins: 1 C2+, 2 GND (power), 3 C2-, 4 V- (power), 5 DOUT1 (hiz), 6 DOUT2 (hiz), 7 DOUT3 (hiz), 8 RIN1 (in), 9 RIN2 (in), 10 DOUT4 (hiz), 11 RIN3 (in), 12 DOUT5 (hiz), 13 FORCEON (in), 14 ~{FORCEOFF} (in), 15 ~{INVALID} (out), 16 ROUT1B (out), 17 DIN5 (in), 18 ROUT3 (hiz), 19 DIN4 (in), 20 ROUT2 (hiz), 21 ROUT1 (hiz), 22 DIN3 (in), 23 DIN2 (in), 24 DIN1 (in), 25 C1-, 26 VCC (power), 27 V+ (power), 28 C1+

## TRS3238EIDWG4
designator U?
3-V to 5.5-V Multichannel RS-232 Line Driver / Receiver with ±15-kV ESD (HBM) Protection, -40 to 85 degC, 28-Pin SOIC (DW), Green (RoHS & no Sb/Br); Drivers Per Package: 5; Receivers Per Package: 3; Supply Voltage(s)(V): 3.3 or 5.0; ESD HBM(kV): +/-15; ICC(Max)(mA): 2; Single Supply: TRUE; DatasheetVersion: SLLS797; PackageVersion: revG, Jan-2011; PackageReference: DW28; PackageDescription: 28-Pin Plastic Small Outline Integrated Circuit, 17.9 x 7.5 mm, Pitch 1.27 mm Pitch; SubFamily: RS-232; RS-232: TRUE; IEC-61000-4-2 SUPPORT: TRUE; ComponentLink1Description: Manufacturer URL; ComponentLink1URL: www.ti.com; ComponentLink2Description: Datasheet; ComponentLink2URL: http://www.ti.com/general/docs/lit/getliterature.tsp?genericPartNumber=TRS3238E&fileType=pdf; ComponentLink3Description: Package Specification; ComponentLink3URL: http://www.ti.com/litv/pdf/mpds175a
footprint TI-DW28_N (SOIC, 28-Leads, Body 17.9x7.5mm, Pitch 1.27mm, IPC Medium Density)
footprint TI-DW28_L (SOIC, 28-Leads, Body 17.9x7.5mm, Pitch 1.27mm, IPC High Density)
footprint TI-DW28_M (SOIC, 28-Leads, Body 17.9x7.5mm, Pitch 1.27mm, IPC Low Density)
pins: 1 C2+, 2 GND (power), 3 C2-, 4 V- (power), 5 DOUT1 (hiz), 6 DOUT2 (hiz), 7 DOUT3 (hiz), 8 RIN1 (in), 9 RIN2 (in), 10 DOUT4 (hiz), 11 RIN3 (in), 12 DOUT5 (hiz), 13 FORCEON (in), 14 ~{FORCEOFF} (in), 15 ~{INVALID} (out), 16 ROUT1B (out), 17 DIN5 (in), 18 ROUT3 (hiz), 19 DIN4 (in), 20 ROUT2 (hiz), 21 ROUT1 (hiz), 22 DIN3 (in), 23 DIN2 (in), 24 DIN1 (in), 25 C1-, 26 VCC (power), 27 V+ (power), 28 C1+

## TRS3238EIPW
designator U?
3-V to 5.5-V Multichannel RS-232 Line Driver / Receiver with ±15-kV ESD (HBM) Protection, -40 to 85 degC, 28-Pin TSSOP (PW), Green (RoHS & no Sb/Br); Drivers Per Package: 5; Receivers Per Package: 3; Supply Voltage(s)(V): 3.3 or 5.0; ESD HBM(kV): +/-15; ICC(Max)(mA): 2; Single Supply: TRUE; DatasheetVersion: SLLS797; PackageVersion: revG, Feb-2011; PackageReference: PW28; PackageDescription: 28-Pin Plastic Thin Small Outline Package 9.7 x 4.4 mm Body ,0.65 mm Pitch; SubFamily: RS-232; RS-232: TRUE; IEC-61000-4-2 SUPPORT: TRUE; ComponentLink1Description: Manufacturer URL; ComponentLink1URL: www.ti.com; ComponentLink2Description: Datasheet; ComponentLink2URL: http://www.ti.com/general/docs/lit/getliterature.tsp?genericPartNumber=TRS3238E&fileType=pdf; ComponentLink3Description: Package Specification; ComponentLink3URL: http://www.ti.com/litv/pdf/mpds364
footprint TI-PW28_N (TSOP, 28-Leads, Body 9.7x4.4mm, Pitch 0.65mm, IPC Medium Density)
footprint TI-PW28_L (TSOP, 28-Leads, Body 9.7x4.4mm, Pitch 0.65mm, IPC High Density)
footprint TI-PW28_M (TSOP, 28-Leads, Body 9.7x4.4mm, Pitch 0.65mm, IPC Low Density)
pins: 1 C2+, 2 GND (power), 3 C2-, 4 V- (power), 5 DOUT1 (hiz), 6 DOUT2 (hiz), 7 DOUT3 (hiz), 8 RIN1 (in), 9 RIN2 (in), 10 DOUT4 (hiz), 11 RIN3 (in), 12 DOUT5 (hiz), 13 FORCEON (in), 14 ~{FORCEOFF} (in), 15 ~{INVALID} (out), 16 ROUT1B (out), 17 DIN5 (in), 18 ROUT3 (hiz), 19 DIN4 (in), 20 ROUT2 (hiz), 21 ROUT1 (hiz), 22 DIN3 (in), 23 DIN2 (in), 24 DIN1 (in), 25 C1-, 26 VCC (power), 27 V+ (power), 28 C1+

## TRS3238IPWR
designator U?
3-V to 5.5-V Multichannel RS-232 Line Driver / Receiver with ±15-kV ESD (HBM) Protection, -40 to 85 degC, 28-Pin TSSOP (PW), Green (RoHS & no Sb/Br); Drivers Per Package: 5; Receivers Per Package: 3; Supply Voltage(s)(V): 3.3 or 5.0; ESD HBM(kV): +/-15; ICC(Max)(mA): 2; Single Supply: TRUE; DatasheetVersion: SLLS817; PackageVersion: revG, Feb-2011; PackageReference: PW28; PackageDescription: 28-Pin Plastic Thin Small Outline Package 9.7 x 4.4 mm Body ,0.65 mm Pitch; SubFamily: RS-232; RS-232: TRUE; ComponentLink1Description: Manufacturer URL; ComponentLink1URL: www.ti.com; ComponentLink2Description: Datasheet; ComponentLink2URL: http://www.ti.com/general/docs/lit/getliterature.tsp?genericPartNumber=TRS3238&fileType=pdf; ComponentLink3Description: Package Specification; ComponentLink3URL: http://www.ti.com/litv/pdf/mpds364
footprint TI-PW28_N (TSOP, 28-Leads, Body 9.7x4.4mm, Pitch 0.65mm, IPC Medium Density)
footprint TI-PW28_L (TSOP, 28-Leads, Body 9.7x4.4mm, Pitch 0.65mm, IPC High Density)
footprint TI-PW28_M (TSOP, 28-Leads, Body 9.7x4.4mm, Pitch 0.65mm, IPC Low Density)
pins: 1 C2+, 2 GND (power), 3 C2-, 4 V- (power), 5 DOUT1 (hiz), 6 DOUT2 (hiz), 7 DOUT3 (hiz), 8 RIN1 (in), 9 RIN2 (in), 10 DOUT4 (hiz), 11 RIN3 (in), 12 DOUT5 (hiz), 13 FORCEON (in), 14 ~{FORCEOFF} (in), 15 ~{INVALID} (out), 16 ROUT1B (out), 17 DIN5 (in), 18 ROUT3 (hiz), 19 DIN4 (in), 20 ROUT2 (hiz), 21 ROUT1 (hiz), 22 DIN3 (in), 23 DIN2 (in), 24 DIN1 (in), 25 C1-, 26 VCC (power), 27 V+ (power), 28 C1+

## TRS3238IPWRG4
designator U?
3-V to 5.5-V Multichannel RS-232 Line Driver / Receiver with ±15-kV ESD (HBM) Protection, -40 to 85 degC, 28-Pin TSSOP (PW), Green (RoHS & no Sb/Br); Drivers Per Package: 5; Receivers Per Package: 3; Supply Voltage(s)(V): 3.3 or 5.0; ESD HBM(kV): +/-15; ICC(Max)(mA): 2; Single Supply: TRUE; DatasheetVersion: SLLS817; PackageVersion: revG, Feb-2011; PackageReference: PW28; PackageDescription: 28-Pin Plastic Thin Small Outline Package 9.7 x 4.4 mm Body ,0.65 mm Pitch; SubFamily: RS-232; RS-232: TRUE; ComponentLink1Description: Manufacturer URL; ComponentLink1URL: www.ti.com; ComponentLink2Description: Datasheet; ComponentLink2URL: http://www.ti.com/general/docs/lit/getliterature.tsp?genericPartNumber=TRS3238&fileType=pdf; ComponentLink3Description: Package Specification; ComponentLink3URL: http://www.ti.com/litv/pdf/mpds364
footprint TI-PW28_N (TSOP, 28-Leads, Body 9.7x4.4mm, Pitch 0.65mm, IPC Medium Density)
footprint TI-PW28_L (TSOP, 28-Leads, Body 9.7x4.4mm, Pitch 0.65mm, IPC High Density)
footprint TI-PW28_M (TSOP, 28-Leads, Body 9.7x4.4mm, Pitch 0.65mm, IPC Low Density)
pins: 1 C2+, 2 GND (power), 3 C2-, 4 V- (power), 5 DOUT1 (hiz), 6 DOUT2 (hiz), 7 DOUT3 (hiz), 8 RIN1 (in), 9 RIN2 (in), 10 DOUT4 (hiz), 11 RIN3 (in), 12 DOUT5 (hiz), 13 FORCEON (in), 14 ~{FORCEOFF} (in), 15 ~{INVALID} (out), 16 ROUT1B (out), 17 DIN5 (in), 18 ROUT3 (hiz), 19 DIN4 (in), 20 ROUT2 (hiz), 21 ROUT1 (hiz), 22 DIN3 (in), 23 DIN2 (in), 24 DIN1 (in), 25 C1-, 26 VCC (power), 27 V+ (power), 28 C1+

## TRS3243CDB
designator U?
3-V to 5.5-V Multichannel RS-232 Line Driver / Receiver with ±15-kV ESD (HBM) Protection, 0 to 70 degC, 28-Pin SSOP (DB), Green (RoHS & no Sb/Br); Drivers Per Package: 3; Receivers Per Package: 5; Supply Voltage(s)(V): 3.3 or 5.0; ESD HBM(kV): +/-15; ICC(Max)(mA): 1; Single Supply: TRUE; DatasheetVersion: SLLS806; PackageVersion: revE, Dec-2001; PackageReference: DB28; PackageDescription: 28-Pin Plastic Small Outline Package, 10.2 x 5.3 mm Body, 0.65 mm Pitch; SubFamily: RS-232; RS-232: TRUE; ComponentLink1Description: Manufacturer URL; ComponentLink1URL: www.ti.com; ComponentLink2Description: Datasheet; ComponentLink2URL: http://www.ti.com/general/docs/lit/getliterature.tsp?genericPartNumber=TRS3243&fileType=pdf; ComponentLink3Description: Package Specification; ComponentLink3URL: http://www.ti.com/litv/pdf/msso002e
footprint TI-DB28_N (SOP, 28-Leads, Body 10.2x5.3mm, Pitch 0.65mm, IPC Medium Density)
footprint TI-DB28_L (SOP, 28-Leads, Body 10.2x5.3mm, Pitch 0.65mm, IPC High Density)
footprint TI-DB28_M (SOP, 28-Leads, Body 10.2x5.3mm, Pitch 0.65mm, IPC Low Density)
pins: 1 C2+, 2 C2-, 3 V- (power), 4 RIN1 (in), 5 RIN2 (in), 6 RIN3 (in), 7 RIN4 (in), 8 RIN5 (in), 9 DOUT1 (hiz), 10 DOUT2 (hiz), 11 DOUT3 (hiz), 12 DIN3 (in), 13 DIN2 (in), 14 DIN1 (in), 15 ROUT5 (hiz), 16 ROUT4 (hiz), 17 ROUT3 (hiz), 18 ROUT2 (hiz), 19 ROUT1 (hiz), 20 ROUT2B (out), 21 ~{INVALID} (out), 22 ~{FORCEOFF} (in), 23 FORCEON (in), 24 C1-, 25 GND (power), 26 VCC (power), 27 V+ (power), 28 C1+

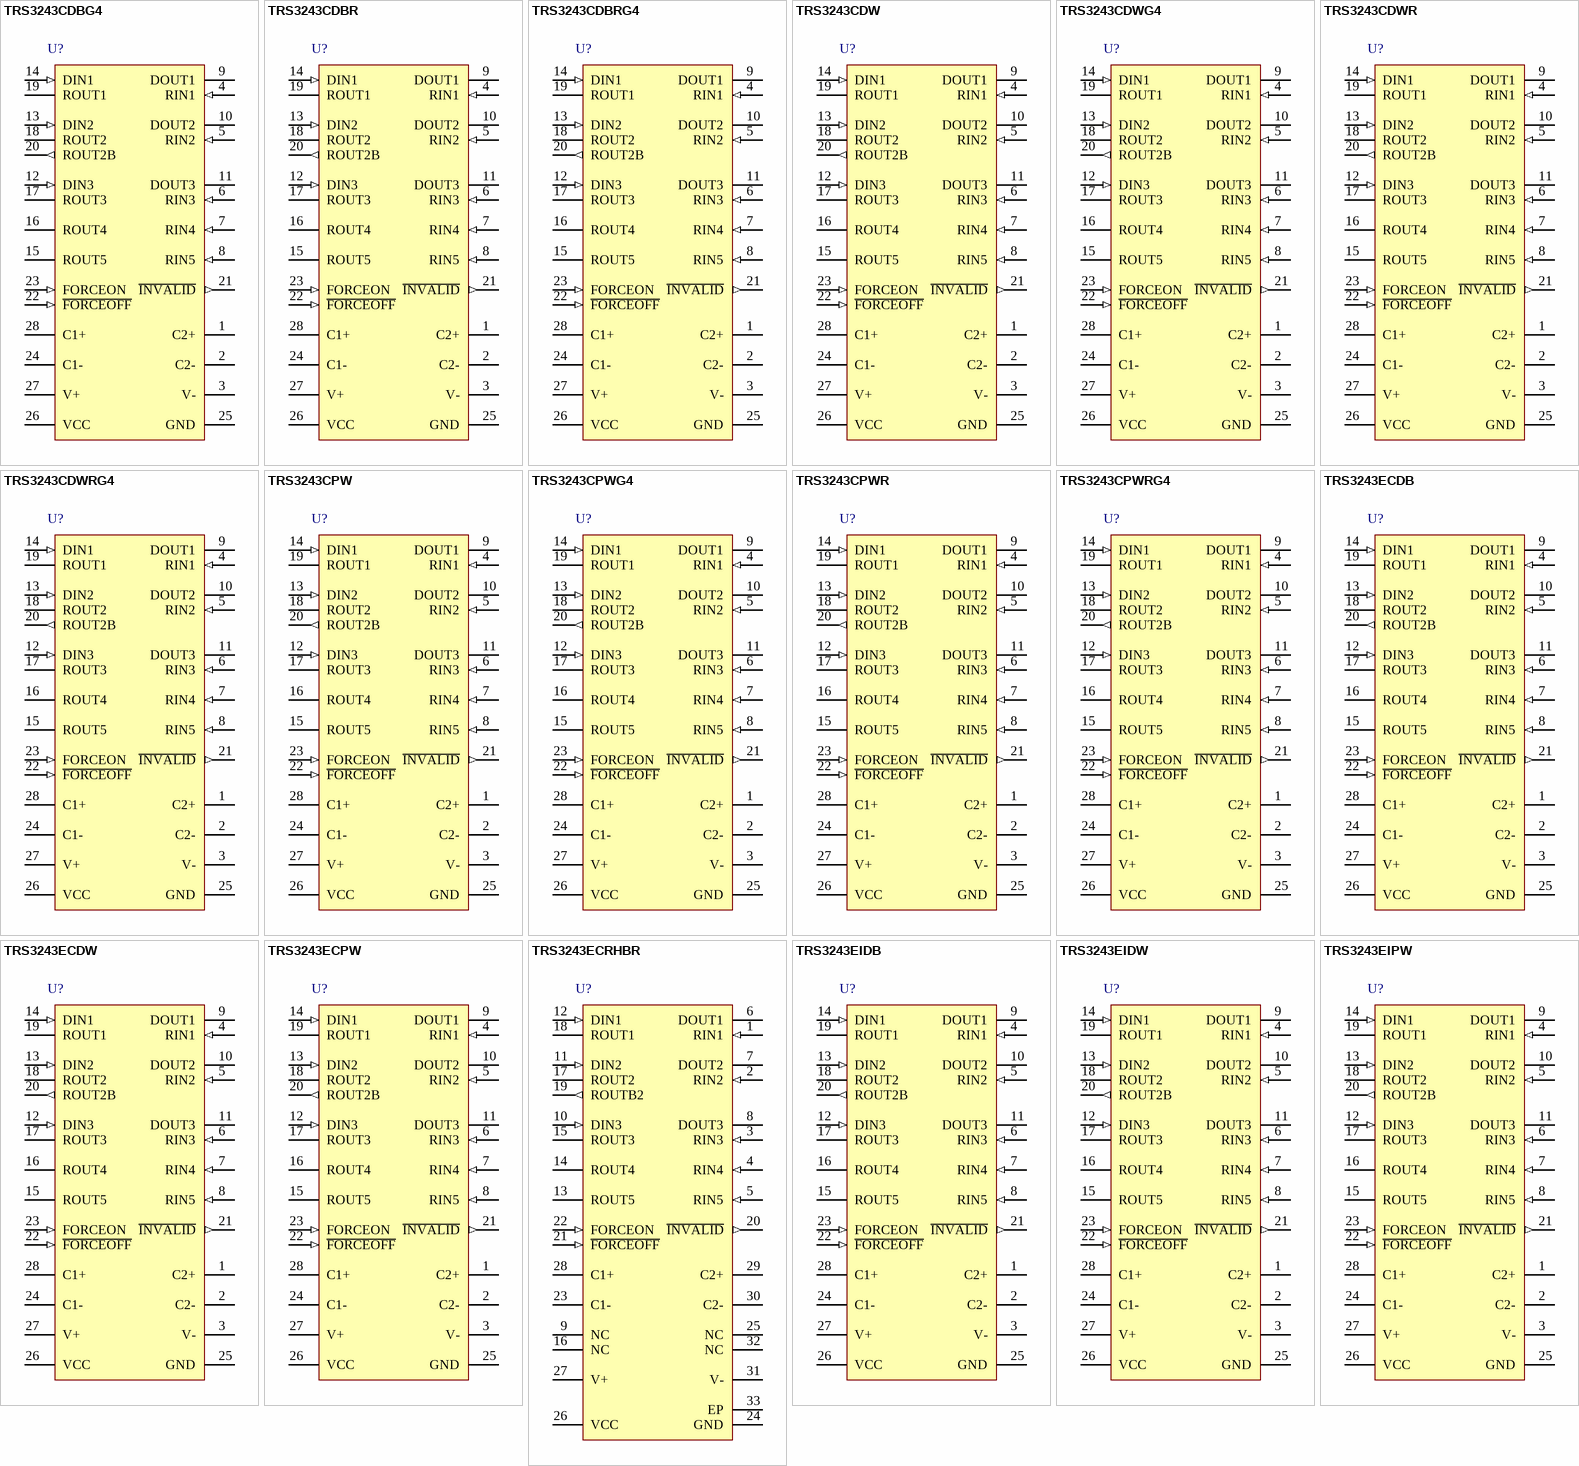
[diagram p49: symbols TRS3243CDBG4 to TRS3243EIPW]

## TRS3243CDBG4
designator U?
3-V to 5.5-V Multichannel RS-232 Line Driver / Receiver with ±15-kV ESD (HBM) Protection, 0 to 70 degC, 28-Pin SSOP (DB), Green (RoHS & no Sb/Br); Drivers Per Package: 3; Receivers Per Package: 5; Supply Voltage(s)(V): 3.3 or 5.0; ESD HBM(kV): +/-15; ICC(Max)(mA): 1; Single Supply: TRUE; DatasheetVersion: SLLS806; PackageVersion: revE, Dec-2001; PackageReference: DB28; PackageDescription: 28-Pin Plastic Small Outline Package, 10.2 x 5.3 mm Body, 0.65 mm Pitch; SubFamily: RS-232; RS-232: TRUE; ComponentLink1Description: Manufacturer URL; ComponentLink1URL: www.ti.com; ComponentLink2Description: Datasheet; ComponentLink2URL: http://www.ti.com/general/docs/lit/getliterature.tsp?genericPartNumber=TRS3243&fileType=pdf; ComponentLink3Description: Package Specification; ComponentLink3URL: http://www.ti.com/litv/pdf/msso002e
footprint TI-DB28_N (SOP, 28-Leads, Body 10.2x5.3mm, Pitch 0.65mm, IPC Medium Density)
footprint TI-DB28_L (SOP, 28-Leads, Body 10.2x5.3mm, Pitch 0.65mm, IPC High Density)
footprint TI-DB28_M (SOP, 28-Leads, Body 10.2x5.3mm, Pitch 0.65mm, IPC Low Density)
pins: 1 C2+, 2 C2-, 3 V- (power), 4 RIN1 (in), 5 RIN2 (in), 6 RIN3 (in), 7 RIN4 (in), 8 RIN5 (in), 9 DOUT1 (hiz), 10 DOUT2 (hiz), 11 DOUT3 (hiz), 12 DIN3 (in), 13 DIN2 (in), 14 DIN1 (in), 15 ROUT5 (hiz), 16 ROUT4 (hiz), 17 ROUT3 (hiz), 18 ROUT2 (hiz), 19 ROUT1 (hiz), 20 ROUT2B (out), 21 ~{INVALID} (out), 22 ~{FORCEOFF} (in), 23 FORCEON (in), 24 C1-, 25 GND (power), 26 VCC (power), 27 V+ (power), 28 C1+

## TRS3243CDBR
designator U?
3-V to 5.5-V Multichannel RS-232 Line Driver / Receiver with ±15-kV ESD (HBM) Protection, 0 to 70 degC, 28-Pin SSOP (DB), Green (RoHS & no Sb/Br); Drivers Per Package: 3; Receivers Per Package: 5; Supply Voltage(s)(V): 3.3 or 5.0; ESD HBM(kV): +/-15; ICC(Max)(mA): 1; Single Supply: TRUE; DatasheetVersion: SLLS806; PackageVersion: revE, Dec-2001; PackageReference: DB28; PackageDescription: 28-Pin Plastic Small Outline Package, 10.2 x 5.3 mm Body, 0.65 mm Pitch; SubFamily: RS-232; RS-232: TRUE; ComponentLink1Description: Manufacturer URL; ComponentLink1URL: www.ti.com; ComponentLink2Description: Datasheet; ComponentLink2URL: http://www.ti.com/general/docs/lit/getliterature.tsp?genericPartNumber=TRS3243&fileType=pdf; ComponentLink3Description: Package Specification; ComponentLink3URL: http://www.ti.com/litv/pdf/msso002e
footprint TI-DB28_N (SOP, 28-Leads, Body 10.2x5.3mm, Pitch 0.65mm, IPC Medium Density)
footprint TI-DB28_L (SOP, 28-Leads, Body 10.2x5.3mm, Pitch 0.65mm, IPC High Density)
footprint TI-DB28_M (SOP, 28-Leads, Body 10.2x5.3mm, Pitch 0.65mm, IPC Low Density)
pins: 1 C2+, 2 C2-, 3 V- (power), 4 RIN1 (in), 5 RIN2 (in), 6 RIN3 (in), 7 RIN4 (in), 8 RIN5 (in), 9 DOUT1 (hiz), 10 DOUT2 (hiz), 11 DOUT3 (hiz), 12 DIN3 (in), 13 DIN2 (in), 14 DIN1 (in), 15 ROUT5 (hiz), 16 ROUT4 (hiz), 17 ROUT3 (hiz), 18 ROUT2 (hiz), 19 ROUT1 (hiz), 20 ROUT2B (out), 21 ~{INVALID} (out), 22 ~{FORCEOFF} (in), 23 FORCEON (in), 24 C1-, 25 GND (power), 26 VCC (power), 27 V+ (power), 28 C1+

## TRS3243CDBRG4
designator U?
3-V to 5.5-V Multichannel RS-232 Line Driver / Receiver with ±15-kV ESD (HBM) Protection, 0 to 70 degC, 28-Pin SSOP (DB), Green (RoHS & no Sb/Br); Drivers Per Package: 3; Receivers Per Package: 5; Supply Voltage(s)(V): 3.3 or 5.0; ESD HBM(kV): +/-15; ICC(Max)(mA): 1; Single Supply: TRUE; DatasheetVersion: SLLS806; PackageVersion: revE, Dec-2001; PackageReference: DB28; PackageDescription: 28-Pin Plastic Small Outline Package, 10.2 x 5.3 mm Body, 0.65 mm Pitch; SubFamily: RS-232; RS-232: TRUE; ComponentLink1Description: Manufacturer URL; ComponentLink1URL: www.ti.com; ComponentLink2Description: Datasheet; ComponentLink2URL: http://www.ti.com/general/docs/lit/getliterature.tsp?genericPartNumber=TRS3243&fileType=pdf; ComponentLink3Description: Package Specification; ComponentLink3URL: http://www.ti.com/litv/pdf/msso002e
footprint TI-DB28_N (SOP, 28-Leads, Body 10.2x5.3mm, Pitch 0.65mm, IPC Medium Density)
footprint TI-DB28_L (SOP, 28-Leads, Body 10.2x5.3mm, Pitch 0.65mm, IPC High Density)
footprint TI-DB28_M (SOP, 28-Leads, Body 10.2x5.3mm, Pitch 0.65mm, IPC Low Density)
pins: 1 C2+, 2 C2-, 3 V- (power), 4 RIN1 (in), 5 RIN2 (in), 6 RIN3 (in), 7 RIN4 (in), 8 RIN5 (in), 9 DOUT1 (hiz), 10 DOUT2 (hiz), 11 DOUT3 (hiz), 12 DIN3 (in), 13 DIN2 (in), 14 DIN1 (in), 15 ROUT5 (hiz), 16 ROUT4 (hiz), 17 ROUT3 (hiz), 18 ROUT2 (hiz), 19 ROUT1 (hiz), 20 ROUT2B (out), 21 ~{INVALID} (out), 22 ~{FORCEOFF} (in), 23 FORCEON (in), 24 C1-, 25 GND (power), 26 VCC (power), 27 V+ (power), 28 C1+

## TRS3243CDW
designator U?
3-V to 5.5-V Multichannel RS-232 Line Driver / Receiver with ±15-kV ESD (HBM) Protection, 0 to 70 degC, 28-Pin SOIC (DW), Green (RoHS & no Sb/Br); Drivers Per Package: 3; Receivers Per Package: 5; Supply Voltage(s)(V): 3.3 or 5.0; ESD HBM(kV): +/-15; ICC(Max)(mA): 1; Single Supply: TRUE; DatasheetVersion: SLLS806; PackageVersion: revG, Jan-2011; PackageReference: DW28; PackageDescription: 28-Pin Plastic Small Outline Integrated Circuit, 17.9 x 7.5 mm, Pitch 1.27 mm Pitch; SubFamily: RS-232; RS-232: TRUE; ComponentLink1Description: Manufacturer URL; ComponentLink1URL: www.ti.com; ComponentLink2Description: Datasheet; ComponentLink2URL: http://www.ti.com/general/docs/lit/getliterature.tsp?genericPartNumber=TRS3243&fileType=pdf; ComponentLink3Description: Package Specification; ComponentLink3URL: http://www.ti.com/litv/pdf/mpds175a
footprint TI-DW28_N (SOIC, 28-Leads, Body 17.9x7.5mm, Pitch 1.27mm, IPC Medium Density)
footprint TI-DW28_L (SOIC, 28-Leads, Body 17.9x7.5mm, Pitch 1.27mm, IPC High Density)
footprint TI-DW28_M (SOIC, 28-Leads, Body 17.9x7.5mm, Pitch 1.27mm, IPC Low Density)
pins: 1 C2+, 2 C2-, 3 V- (power), 4 RIN1 (in), 5 RIN2 (in), 6 RIN3 (in), 7 RIN4 (in), 8 RIN5 (in), 9 DOUT1 (hiz), 10 DOUT2 (hiz), 11 DOUT3 (hiz), 12 DIN3 (in), 13 DIN2 (in), 14 DIN1 (in), 15 ROUT5 (hiz), 16 ROUT4 (hiz), 17 ROUT3 (hiz), 18 ROUT2 (hiz), 19 ROUT1 (hiz), 20 ROUT2B (out), 21 ~{INVALID} (out), 22 ~{FORCEOFF} (in), 23 FORCEON (in), 24 C1-, 25 GND (power), 26 VCC (power), 27 V+ (power), 28 C1+

## TRS3243CDWG4
designator U?
3-V to 5.5-V Multichannel RS-232 Line Driver / Receiver with ±15-kV ESD (HBM) Protection, 0 to 70 degC, 28-Pin SOIC (DW), Green (RoHS & no Sb/Br); Drivers Per Package: 3; Receivers Per Package: 5; Supply Voltage(s)(V): 3.3 or 5.0; ESD HBM(kV): +/-15; ICC(Max)(mA): 1; Single Supply: TRUE; DatasheetVersion: SLLS806; PackageVersion: revG, Jan-2011; PackageReference: DW28; PackageDescription: 28-Pin Plastic Small Outline Integrated Circuit, 17.9 x 7.5 mm, Pitch 1.27 mm Pitch; SubFamily: RS-232; RS-232: TRUE; ComponentLink1Description: Manufacturer URL; ComponentLink1URL: www.ti.com; ComponentLink2Description: Datasheet; ComponentLink2URL: http://www.ti.com/general/docs/lit/getliterature.tsp?genericPartNumber=TRS3243&fileType=pdf; ComponentLink3Description: Package Specification; ComponentLink3URL: http://www.ti.com/litv/pdf/mpds175a
footprint TI-DW28_N (SOIC, 28-Leads, Body 17.9x7.5mm, Pitch 1.27mm, IPC Medium Density)
footprint TI-DW28_L (SOIC, 28-Leads, Body 17.9x7.5mm, Pitch 1.27mm, IPC High Density)
footprint TI-DW28_M (SOIC, 28-Leads, Body 17.9x7.5mm, Pitch 1.27mm, IPC Low Density)
pins: 1 C2+, 2 C2-, 3 V- (power), 4 RIN1 (in), 5 RIN2 (in), 6 RIN3 (in), 7 RIN4 (in), 8 RIN5 (in), 9 DOUT1 (hiz), 10 DOUT2 (hiz), 11 DOUT3 (hiz), 12 DIN3 (in), 13 DIN2 (in), 14 DIN1 (in), 15 ROUT5 (hiz), 16 ROUT4 (hiz), 17 ROUT3 (hiz), 18 ROUT2 (hiz), 19 ROUT1 (hiz), 20 ROUT2B (out), 21 ~{INVALID} (out), 22 ~{FORCEOFF} (in), 23 FORCEON (in), 24 C1-, 25 GND (power), 26 VCC (power), 27 V+ (power), 28 C1+

## TRS3243CDWR
designator U?
3-V to 5.5-V Multichannel RS-232 Line Driver / Receiver with ±15-kV ESD (HBM) Protection, 0 to 70 degC, 28-Pin SOIC (DW), Green (RoHS & no Sb/Br); Drivers Per Package: 3; Receivers Per Package: 5; Supply Voltage(s)(V): 3.3 or 5.0; ESD HBM(kV): +/-15; ICC(Max)(mA): 1; Single Supply: TRUE; DatasheetVersion: SLLS806; PackageVersion: revG, Jan-2011; PackageReference: DW28; PackageDescription: 28-Pin Plastic Small Outline Integrated Circuit, 17.9 x 7.5 mm, Pitch 1.27 mm Pitch; SubFamily: RS-232; RS-232: TRUE; ComponentLink1Description: Manufacturer URL; ComponentLink1URL: www.ti.com; ComponentLink2Description: Datasheet; ComponentLink2URL: http://www.ti.com/general/docs/lit/getliterature.tsp?genericPartNumber=TRS3243&fileType=pdf; ComponentLink3Description: Package Specification; ComponentLink3URL: http://www.ti.com/litv/pdf/mpds175a
footprint TI-DW28_N (SOIC, 28-Leads, Body 17.9x7.5mm, Pitch 1.27mm, IPC Medium Density)
footprint TI-DW28_L (SOIC, 28-Leads, Body 17.9x7.5mm, Pitch 1.27mm, IPC High Density)
footprint TI-DW28_M (SOIC, 28-Leads, Body 17.9x7.5mm, Pitch 1.27mm, IPC Low Density)
pins: 1 C2+, 2 C2-, 3 V- (power), 4 RIN1 (in), 5 RIN2 (in), 6 RIN3 (in), 7 RIN4 (in), 8 RIN5 (in), 9 DOUT1 (hiz), 10 DOUT2 (hiz), 11 DOUT3 (hiz), 12 DIN3 (in), 13 DIN2 (in), 14 DIN1 (in), 15 ROUT5 (hiz), 16 ROUT4 (hiz), 17 ROUT3 (hiz), 18 ROUT2 (hiz), 19 ROUT1 (hiz), 20 ROUT2B (out), 21 ~{INVALID} (out), 22 ~{FORCEOFF} (in), 23 FORCEON (in), 24 C1-, 25 GND (power), 26 VCC (power), 27 V+ (power), 28 C1+

## TRS3243CDWRG4
designator U?
3-V to 5.5-V Multichannel RS-232 Line Driver / Receiver with ±15-kV ESD (HBM) Protection, 0 to 70 degC, 28-Pin SOIC (DW), Green (RoHS & no Sb/Br); Drivers Per Package: 3; Receivers Per Package: 5; Supply Voltage(s)(V): 3.3 or 5.0; ESD HBM(kV): +/-15; ICC(Max)(mA): 1; Single Supply: TRUE; DatasheetVersion: SLLS806; PackageVersion: revG, Jan-2011; PackageReference: DW28; PackageDescription: 28-Pin Plastic Small Outline Integrated Circuit, 17.9 x 7.5 mm, Pitch 1.27 mm Pitch; SubFamily: RS-232; RS-232: TRUE; ComponentLink1Description: Manufacturer URL; ComponentLink1URL: www.ti.com; ComponentLink2Description: Datasheet; ComponentLink2URL: http://www.ti.com/general/docs/lit/getliterature.tsp?genericPartNumber=TRS3243&fileType=pdf; ComponentLink3Description: Package Specification; ComponentLink3URL: http://www.ti.com/litv/pdf/mpds175a
footprint TI-DW28_N (SOIC, 28-Leads, Body 17.9x7.5mm, Pitch 1.27mm, IPC Medium Density)
footprint TI-DW28_L (SOIC, 28-Leads, Body 17.9x7.5mm, Pitch 1.27mm, IPC High Density)
footprint TI-DW28_M (SOIC, 28-Leads, Body 17.9x7.5mm, Pitch 1.27mm, IPC Low Density)
pins: 1 C2+, 2 C2-, 3 V- (power), 4 RIN1 (in), 5 RIN2 (in), 6 RIN3 (in), 7 RIN4 (in), 8 RIN5 (in), 9 DOUT1 (hiz), 10 DOUT2 (hiz), 11 DOUT3 (hiz), 12 DIN3 (in), 13 DIN2 (in), 14 DIN1 (in), 15 ROUT5 (hiz), 16 ROUT4 (hiz), 17 ROUT3 (hiz), 18 ROUT2 (hiz), 19 ROUT1 (hiz), 20 ROUT2B (out), 21 ~{INVALID} (out), 22 ~{FORCEOFF} (in), 23 FORCEON (in), 24 C1-, 25 GND (power), 26 VCC (power), 27 V+ (power), 28 C1+

## TRS3243CPW
designator U?
3-V to 5.5-V Multichannel RS-232 Line Driver / Receiver with ±15-kV ESD (HBM) Protection, 0 to 70 degC, 28-Pin TSSOP (PW), Green (RoHS & no Sb/Br); Drivers Per Package: 3; Receivers Per Package: 5; Supply Voltage(s)(V): 3.3 or 5.0; ESD HBM(kV): +/-15; ICC(Max)(mA): 1; Single Supply: TRUE; DatasheetVersion: SLLS806; PackageVersion: revG, Feb-2011; PackageReference: PW28; PackageDescription: 28-Pin Plastic Thin Small Outline Package 9.7 x 4.4 mm Body ,0.65 mm Pitch; SubFamily: RS-232; RS-232: TRUE; ComponentLink1Description: Manufacturer URL; ComponentLink1URL: www.ti.com; ComponentLink2Description: Datasheet; ComponentLink2URL: http://www.ti.com/general/docs/lit/getliterature.tsp?genericPartNumber=TRS3243&fileType=pdf; ComponentLink3Description: Package Specification; ComponentLink3URL: http://www.ti.com/litv/pdf/mpds364
footprint TI-PW28_N (TSOP, 28-Leads, Body 9.7x4.4mm, Pitch 0.65mm, IPC Medium Density)
footprint TI-PW28_L (TSOP, 28-Leads, Body 9.7x4.4mm, Pitch 0.65mm, IPC High Density)
footprint TI-PW28_M (TSOP, 28-Leads, Body 9.7x4.4mm, Pitch 0.65mm, IPC Low Density)
pins: 1 C2+, 2 C2-, 3 V- (power), 4 RIN1 (in), 5 RIN2 (in), 6 RIN3 (in), 7 RIN4 (in), 8 RIN5 (in), 9 DOUT1 (hiz), 10 DOUT2 (hiz), 11 DOUT3 (hiz), 12 DIN3 (in), 13 DIN2 (in), 14 DIN1 (in), 15 ROUT5 (hiz), 16 ROUT4 (hiz), 17 ROUT3 (hiz), 18 ROUT2 (hiz), 19 ROUT1 (hiz), 20 ROUT2B (out), 21 ~{INVALID} (out), 22 ~{FORCEOFF} (in), 23 FORCEON (in), 24 C1-, 25 GND (power), 26 VCC (power), 27 V+ (power), 28 C1+

## TRS3243CPWG4
designator U?
3-V to 5.5-V Multichannel RS-232 Line Driver / Receiver with ±15-kV ESD (HBM) Protection, 0 to 70 degC, 28-Pin TSSOP (PW), Green (RoHS & no Sb/Br); Drivers Per Package: 3; Receivers Per Package: 5; Supply Voltage(s)(V): 3.3 or 5.0; ESD HBM(kV): +/-15; ICC(Max)(mA): 1; Single Supply: TRUE; DatasheetVersion: SLLS806; PackageVersion: revG, Feb-2011; PackageReference: PW28; PackageDescription: 28-Pin Plastic Thin Small Outline Package 9.7 x 4.4 mm Body ,0.65 mm Pitch; SubFamily: RS-232; RS-232: TRUE; ComponentLink1Description: Manufacturer URL; ComponentLink1URL: www.ti.com; ComponentLink2Description: Datasheet; ComponentLink2URL: http://www.ti.com/general/docs/lit/getliterature.tsp?genericPartNumber=TRS3243&fileType=pdf; ComponentLink3Description: Package Specification; ComponentLink3URL: http://www.ti.com/litv/pdf/mpds364
footprint TI-PW28_N (TSOP, 28-Leads, Body 9.7x4.4mm, Pitch 0.65mm, IPC Medium Density)
footprint TI-PW28_L (TSOP, 28-Leads, Body 9.7x4.4mm, Pitch 0.65mm, IPC High Density)
footprint TI-PW28_M (TSOP, 28-Leads, Body 9.7x4.4mm, Pitch 0.65mm, IPC Low Density)
pins: 1 C2+, 2 C2-, 3 V- (power), 4 RIN1 (in), 5 RIN2 (in), 6 RIN3 (in), 7 RIN4 (in), 8 RIN5 (in), 9 DOUT1 (hiz), 10 DOUT2 (hiz), 11 DOUT3 (hiz), 12 DIN3 (in), 13 DIN2 (in), 14 DIN1 (in), 15 ROUT5 (hiz), 16 ROUT4 (hiz), 17 ROUT3 (hiz), 18 ROUT2 (hiz), 19 ROUT1 (hiz), 20 ROUT2B (out), 21 ~{INVALID} (out), 22 ~{FORCEOFF} (in), 23 FORCEON (in), 24 C1-, 25 GND (power), 26 VCC (power), 27 V+ (power), 28 C1+